# Altium schematic symbol library TPwGND.SchLib: 1 symbol
Pins are listed as number, name and electrical type; pins without a type are passive.

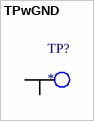
[diagram p0: symbol TPwGND]

## TPwGND
designator TP?
Test Point Pogo Solder Land w/ GND
pins: 1 TP, 2 GND